# Altium integrated library Texas Instruments Interface RS-485.IntLib: 137 symbols (part 2 of 5)
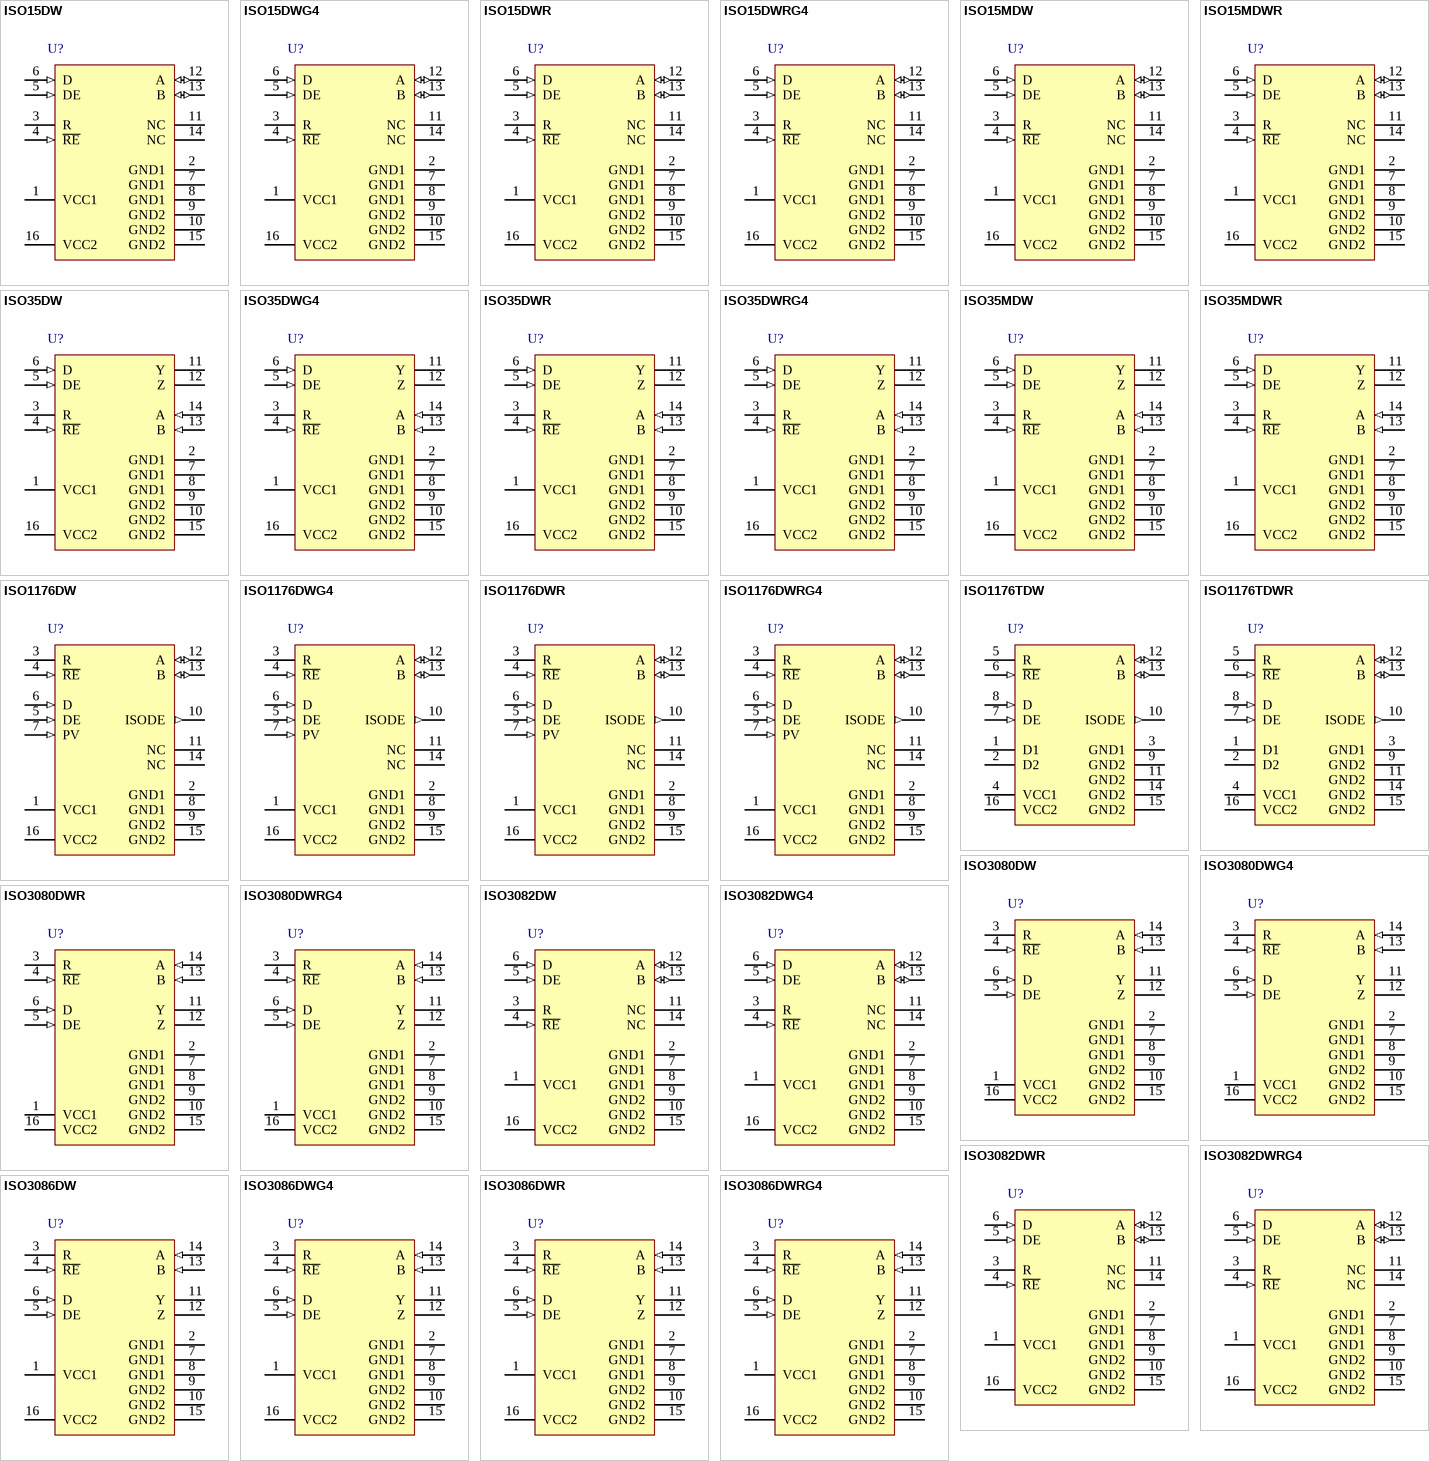
[diagram p4: symbols ISO15DW to ISO3086DWRG4]

## ISO3086DWG4
designator U?
Isolated RS-485 Transceiver, 20 Mbps, 5 V, Full Duplex, -40 to 85 degC, 16-pin SOIC (DW), Green (RoHS & no Sb/Br); Manufacturer: Texas Instruments; PartNumber: ISO3086DWG4; # of TX/RX: 1 TX / 1 RX; Drivers Per Package: 1; Isolated: Yes; Number of Nodes: 256; Signaling Rate(Mbps): 20; Common Mode Range: -7 to 12; ESD(kV): 16; Fault Protection(V): -9 to 14; Fail Safe: Idle, Open, Short; ICC(Max)(mA): 15; Supply Voltage(s)(V): 5; Rating: Catalog; DatasheetVersion: SLOS581E; PackageVersion: revG, Jan-2011; PackageReference: DW16; PackageDescription: 16-Pin Small Outline Integrated Circuit, 10.3 x 7.5 mm, Pitch 1.27 mm Pitch; Supplier 1: Digi-Key; Supplier Part Number 1: ISO3086DWG4-ND; Supplier 2: Newark; Supplier Part Number 2: 03P4530; Supplier 3: Mouser; Supplier Part Number 3: 595-ISO3086DWG4; Eco-Plan: Green (RoHS & no Sb/Br); SubFamily: RS-485; Receivers Per Package: 1; Duplex: Full; Mounting Technology: Surface Mount; Code_JEDEC: MS-013-AA; ComponentLink1Description: Datasheet; ComponentLink1URL: http://www.ti.com/general/docs/lit/getliterature.tsp?genericPartNumber=ISO3086&fileType=pdf; ComponentLink2Description: Package Specification; ComponentLink2URL: http://www.ti.com/litv/pdf/msoi003g
footprint DW16_N (SOIC, 16-Leads, Body 10.3x7.5mm, Pitch 1.27mm, IPC Medium Density)
footprint DW16_L (SOIC, 16-Leads, Body 10.3x7.5mm, Pitch 1.27mm, IPC High Density)
footprint DW16_M (SOIC, 16-Leads, Body 10.3x7.5mm, Pitch 1.27mm, IPC Low Density)
pins: 1 VCC1 (power), 2 GND1 (power), 3 R (hiz), 4 ~{RE} (in), 5 DE (in), 6 D (in), 7 GND1 (power), 8 GND1 (power), 9 GND2 (power), 10 GND2 (power), 11 Y (hiz), 12 Z (hiz), 13 B (in), 14 A (in), 15 GND2 (power), 16 VCC2 (power)

## ISO3086DWR
designator U?
Isolated RS-485 Transceiver, 20 Mbps, 5 V, Full Duplex, -40 to 85 degC, 16-pin SOIC (DW), Green (RoHS & no Sb/Br); Manufacturer: Texas Instruments; PartNumber: ISO3086DWR; # of TX/RX: 1 TX / 1 RX; Drivers Per Package: 1; Isolated: Yes; Number of Nodes: 256; Signaling Rate(Mbps): 20; Common Mode Range: -7 to 12; ESD(kV): 16; Fault Protection(V): -9 to 14; Fail Safe: Idle, Open, Short; ICC(Max)(mA): 15; Supply Voltage(s)(V): 5; Rating: Catalog; DatasheetVersion: SLOS581E; PackageVersion: revG, Jan-2011; PackageReference: DW16; PackageDescription: 16-Pin Small Outline Integrated Circuit, 10.3 x 7.5 mm, Pitch 1.27 mm Pitch; Supplier 1: Digi-Key; Supplier Part Number 1: ISO3086DWR-ND; Supplier 2: Newark; Supplier Part Number 2: 03P4531; Supplier 3: Mouser; Supplier Part Number 3: 595-ISO3086DWR; Eco-Plan: Green (RoHS & no Sb/Br); SubFamily: RS-485; Receivers Per Package: 1; Duplex: Full; Mounting Technology: Surface Mount; Code_JEDEC: MS-013-AA; ComponentLink1Description: Datasheet; ComponentLink1URL: http://www.ti.com/general/docs/lit/getliterature.tsp?genericPartNumber=ISO3086&fileType=pdf; ComponentLink2Description: Package Specification; ComponentLink2URL: http://www.ti.com/litv/pdf/msoi003g
footprint DW16_N (SOIC, 16-Leads, Body 10.3x7.5mm, Pitch 1.27mm, IPC Medium Density)
footprint DW16_L (SOIC, 16-Leads, Body 10.3x7.5mm, Pitch 1.27mm, IPC High Density)
footprint DW16_M (SOIC, 16-Leads, Body 10.3x7.5mm, Pitch 1.27mm, IPC Low Density)
pins: 1 VCC1 (power), 2 GND1 (power), 3 R (hiz), 4 ~{RE} (in), 5 DE (in), 6 D (in), 7 GND1 (power), 8 GND1 (power), 9 GND2 (power), 10 GND2 (power), 11 Y (hiz), 12 Z (hiz), 13 B (in), 14 A (in), 15 GND2 (power), 16 VCC2 (power)

## ISO3086DWRG4
designator U?
Isolated RS-485 Transceiver, 20 Mbps, 5 V, Full Duplex, -40 to 85 degC, 16-pin SOIC (DW), Green (RoHS & no Sb/Br); Manufacturer: Texas Instruments; PartNumber: ISO3086DWRG4; # of TX/RX: 1 TX / 1 RX; Drivers Per Package: 1; Isolated: Yes; Number of Nodes: 256; Signaling Rate(Mbps): 20; Common Mode Range: -7 to 12; ESD(kV): 16; Fault Protection(V): -9 to 14; Fail Safe: Idle, Open, Short; ICC(Max)(mA): 15; Supply Voltage(s)(V): 5; Rating: Catalog; DatasheetVersion: SLOS581E; PackageVersion: revG, Jan-2011; PackageReference: DW16; PackageDescription: 16-Pin Small Outline Integrated Circuit, 10.3 x 7.5 mm, Pitch 1.27 mm Pitch; Supplier 1: Digi-Key; Supplier Part Number 1: ISO3086DWRG4-ND; Supplier 2: Mouser; Supplier Part Number 2: 595-ISO3086DWRG4; Eco-Plan: Green (RoHS & no Sb/Br); SubFamily: RS-485; Receivers Per Package: 1; Duplex: Full; Mounting Technology: Surface Mount; Code_JEDEC: MS-013-AA; ComponentLink1Description: Datasheet; ComponentLink1URL: http://www.ti.com/general/docs/lit/getliterature.tsp?genericPartNumber=ISO3086&fileType=pdf; ComponentLink2Description: Package Specification; ComponentLink2URL: http://www.ti.com/litv/pdf/msoi003g
footprint DW16_N (SOIC, 16-Leads, Body 10.3x7.5mm, Pitch 1.27mm, IPC Medium Density)
footprint DW16_L (SOIC, 16-Leads, Body 10.3x7.5mm, Pitch 1.27mm, IPC High Density)
footprint DW16_M (SOIC, 16-Leads, Body 10.3x7.5mm, Pitch 1.27mm, IPC Low Density)
pins: 1 VCC1 (power), 2 GND1 (power), 3 R (hiz), 4 ~{RE} (in), 5 DE (in), 6 D (in), 7 GND1 (power), 8 GND1 (power), 9 GND2 (power), 10 GND2 (power), 11 Y (hiz), 12 Z (hiz), 13 B (in), 14 A (in), 15 GND2 (power), 16 VCC2 (power)

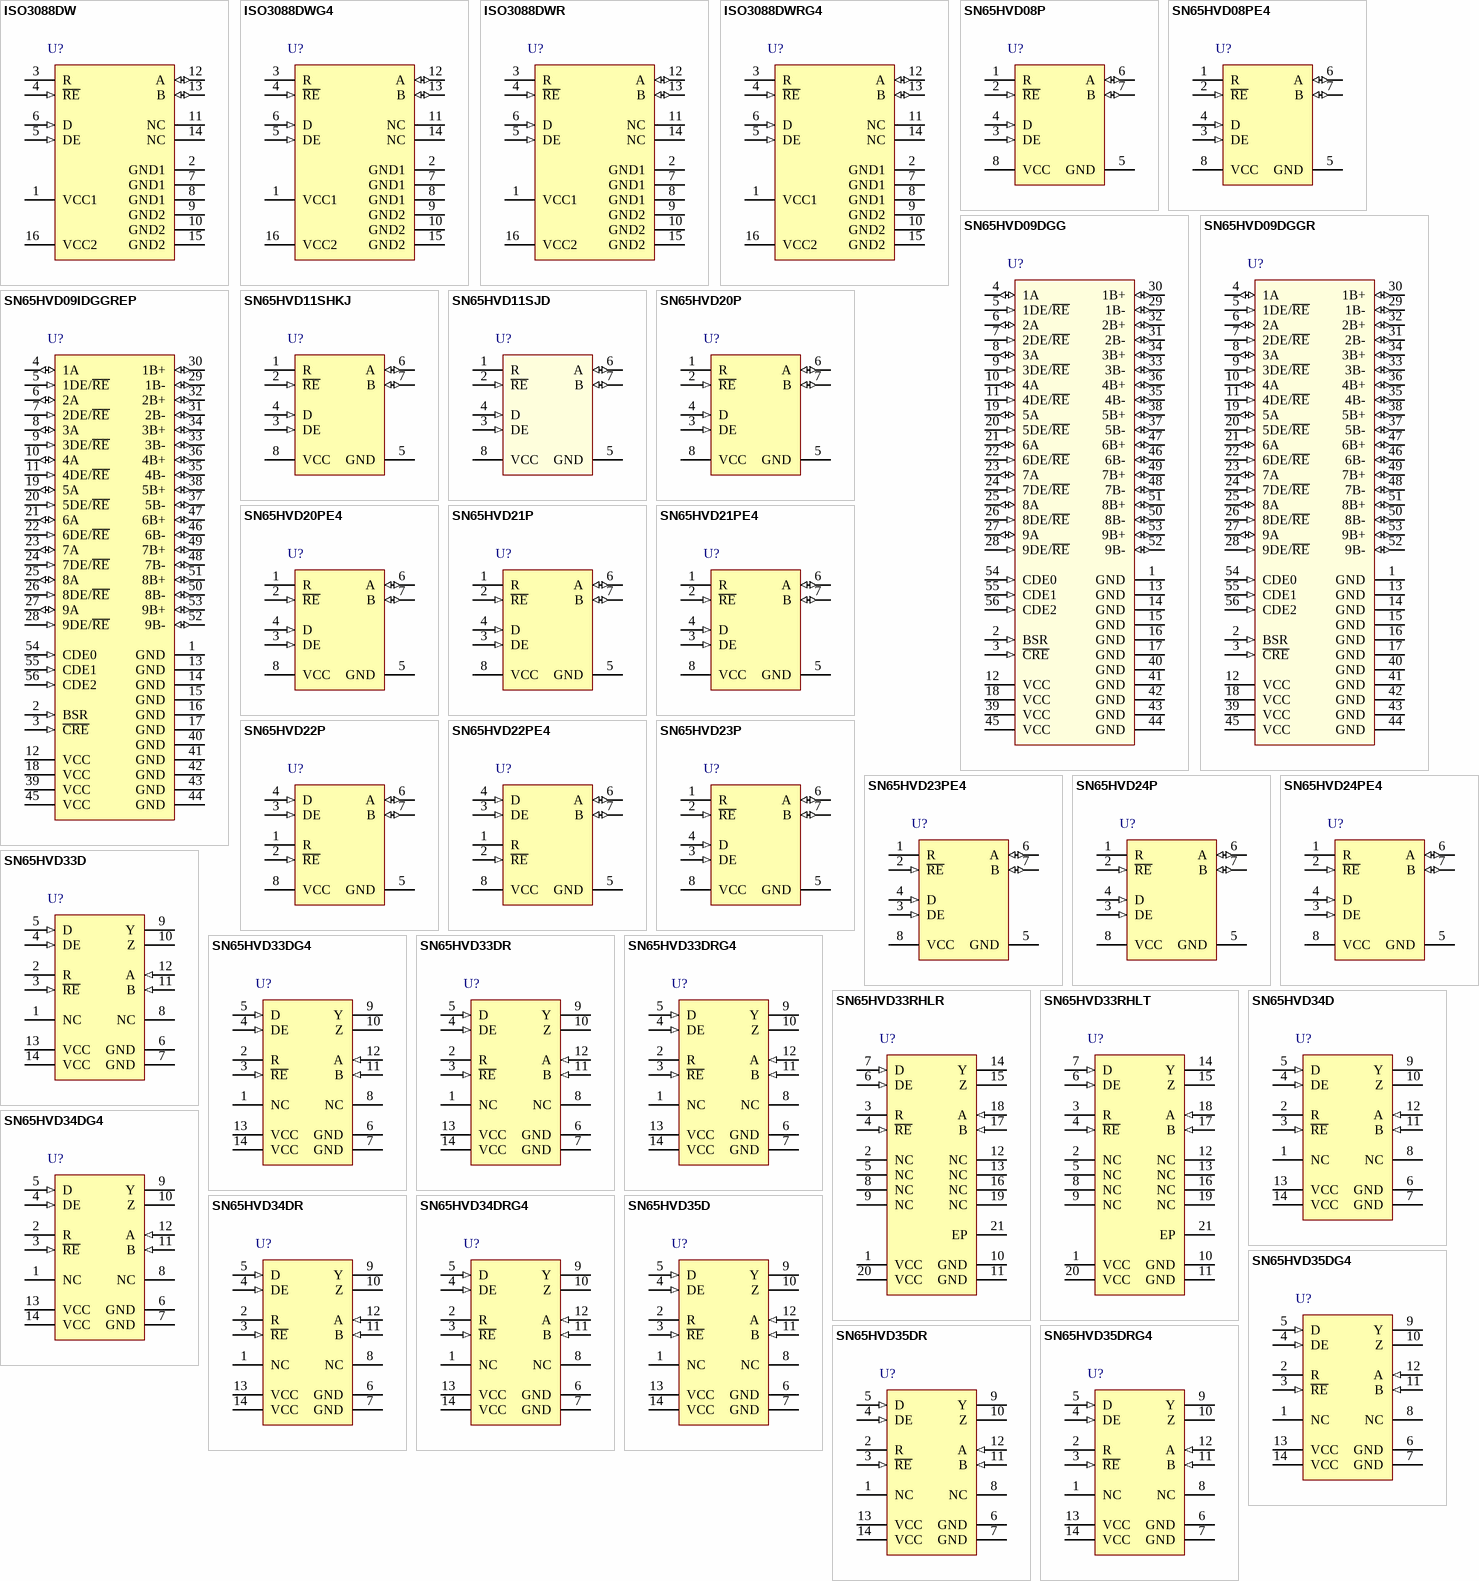
[diagram p1: symbols ISO3088DW to SN65HVD35DRG4]

## ISO3088DW
designator U?
Isolated RS-485 Transceiver, 20 Mbps, 5 V, Half Duplex, -40 to 85 degC, 16-pin SOIC (DW); Manufacturer: Texas Instruments; PartNumber: ISO3088DW; Eco-Plan: TBD; # of TX/RX: 1 TX / 1 RX; Drivers Per Package: 1; Isolated: Yes; Number of Nodes: 256; Signaling Rate(Mbps): 20; Common Mode Range: -7 to 12; ESD(kV): 16; Fault Protection(V): -9 to 14; Fail Safe: Idle, Open, Short; ICC(Max)(mA): 15; Supply Voltage(s)(V): 5; Rating: Catalog; DatasheetVersion: SLOS581E; PackageVersion: revG, Jan-2011; PackageReference: DW16; PackageDescription: 16-Pin Small Outline Integrated Circuit, 10.3 x 7.5 mm, Pitch 1.27 mm Pitch; Supplier 1: Digi-Key; Supplier Part Number 1: 296-23490-5-ND; Supplier 2: Farnell; Supplier Part Number 2: 1755042; Supplier 3: Newark; Supplier Part Number 3: 13N4116; Supplier 4: Mouser; Supplier Part Number 4: 595-ISO3088DW; SubFamily: RS-485; Receivers Per Package: 1; Duplex: Half; Mounting Technology: Surface Mount; Code_JEDEC: MS-013-AA; ComponentLink1Description: Datasheet; ComponentLink1URL: http://www.ti.com/general/docs/lit/getliterature.tsp?genericPartNumber=ISO3088&fileType=pdf; ComponentLink2Description: Package Specification; ComponentLink2URL: http://www.ti.com/litv/pdf/msoi003g
footprint DW16_N (SOIC, 16-Leads, Body 10.3x7.5mm, Pitch 1.27mm, IPC Medium Density)
footprint DW16_L (SOIC, 16-Leads, Body 10.3x7.5mm, Pitch 1.27mm, IPC High Density)
footprint DW16_M (SOIC, 16-Leads, Body 10.3x7.5mm, Pitch 1.27mm, IPC Low Density)
pins: 1 VCC1 (power), 2 GND1 (power), 3 R (hiz), 4 ~{RE} (in), 5 DE (in), 6 D (in), 7 GND1 (power), 8 GND1 (power), 9 GND2 (power), 10 GND2 (power), 11 NC, 12 A (io), 13 B (io), 14 NC, 15 GND2 (power), 16 VCC2 (power)

## ISO3088DWG4
designator U?
Isolated RS-485 Transceiver, 20 Mbps, 5 V, Half Duplex, -40 to 85 degC, 16-pin SOIC (DW); Manufacturer: Texas Instruments; PartNumber: ISO3088DWG4; Eco-Plan: TBD; # of TX/RX: 1 TX / 1 RX; Drivers Per Package: 1; Isolated: Yes; Number of Nodes: 256; Signaling Rate(Mbps): 20; Common Mode Range: -7 to 12; ESD(kV): 16; Fault Protection(V): -9 to 14; Fail Safe: Idle, Open, Short; ICC(Max)(mA): 15; Supply Voltage(s)(V): 5; Rating: Catalog; DatasheetVersion: SLOS581E; PackageVersion: revG, Jan-2011; PackageReference: DW16; PackageDescription: 16-Pin Small Outline Integrated Circuit, 10.3 x 7.5 mm, Pitch 1.27 mm Pitch; Supplier 1: Digi-Key; Supplier Part Number 1: ISO3088DWG4-ND; Supplier 2: Newark; Supplier Part Number 2: 03P4533; Supplier 3: Mouser; Supplier Part Number 3: 595-ISO3088DWG4; SubFamily: RS-485; Receivers Per Package: 1; Duplex: Half; Mounting Technology: Surface Mount; Code_JEDEC: MS-013-AA; ComponentLink1Description: Datasheet; ComponentLink1URL: http://www.ti.com/general/docs/lit/getliterature.tsp?genericPartNumber=ISO3088&fileType=pdf; ComponentLink2Description: Package Specification; ComponentLink2URL: http://www.ti.com/litv/pdf/msoi003g
footprint DW16_N (SOIC, 16-Leads, Body 10.3x7.5mm, Pitch 1.27mm, IPC Medium Density)
footprint DW16_L (SOIC, 16-Leads, Body 10.3x7.5mm, Pitch 1.27mm, IPC High Density)
footprint DW16_M (SOIC, 16-Leads, Body 10.3x7.5mm, Pitch 1.27mm, IPC Low Density)
pins: 1 VCC1 (power), 2 GND1 (power), 3 R (hiz), 4 ~{RE} (in), 5 DE (in), 6 D (in), 7 GND1 (power), 8 GND1 (power), 9 GND2 (power), 10 GND2 (power), 11 NC, 12 A (io), 13 B (io), 14 NC, 15 GND2 (power), 16 VCC2 (power)

## ISO3088DWR
designator U?
Isolated RS-485 Transceiver, 20 Mbps, 5 V, Half Duplex, -40 to 85 degC, 16-pin SOIC (DW); Manufacturer: Texas Instruments; PartNumber: ISO3088DWR; Eco-Plan: TBD; # of TX/RX: 1 TX / 1 RX; Drivers Per Package: 1; Isolated: Yes; Number of Nodes: 256; Signaling Rate(Mbps): 20; Common Mode Range: -7 to 12; ESD(kV): 16; Fault Protection(V): -9 to 14; Fail Safe: Idle, Open, Short; ICC(Max)(mA): 15; Supply Voltage(s)(V): 5; Rating: Catalog; DatasheetVersion: SLOS581E; PackageVersion: revG, Jan-2011; PackageReference: DW16; PackageDescription: 16-Pin Small Outline Integrated Circuit, 10.3 x 7.5 mm, Pitch 1.27 mm Pitch; Supplier 1: Digi-Key; Supplier Part Number 1: ISO3088DWR-ND; Supplier 2: Newark; Supplier Part Number 2: 03P4534; Supplier 3: Mouser; Supplier Part Number 3: 595-ISO3088DWR; SubFamily: RS-485; Receivers Per Package: 1; Duplex: Half; Mounting Technology: Surface Mount; Code_JEDEC: MS-013-AA; ComponentLink1Description: Datasheet; ComponentLink1URL: http://www.ti.com/general/docs/lit/getliterature.tsp?genericPartNumber=ISO3088&fileType=pdf; ComponentLink2Description: Package Specification; ComponentLink2URL: http://www.ti.com/litv/pdf/msoi003g
footprint DW16_N (SOIC, 16-Leads, Body 10.3x7.5mm, Pitch 1.27mm, IPC Medium Density)
footprint DW16_L (SOIC, 16-Leads, Body 10.3x7.5mm, Pitch 1.27mm, IPC High Density)
footprint DW16_M (SOIC, 16-Leads, Body 10.3x7.5mm, Pitch 1.27mm, IPC Low Density)
pins: 1 VCC1 (power), 2 GND1 (power), 3 R (hiz), 4 ~{RE} (in), 5 DE (in), 6 D (in), 7 GND1 (power), 8 GND1 (power), 9 GND2 (power), 10 GND2 (power), 11 NC, 12 A (io), 13 B (io), 14 NC, 15 GND2 (power), 16 VCC2 (power)

## ISO3088DWRG4
designator U?
Isolated RS-485 Transceiver, 20 Mbps, 5 V, Half Duplex, -40 to 85 degC, 16-pin SOIC (DW); Manufacturer: Texas Instruments; PartNumber: ISO3088DWRG4; Eco-Plan: TBD; # of TX/RX: 1 TX / 1 RX; Drivers Per Package: 1; Isolated: Yes; Number of Nodes: 256; Signaling Rate(Mbps): 20; Common Mode Range: -7 to 12; ESD(kV): 16; Fault Protection(V): -9 to 14; Fail Safe: Idle, Open, Short; ICC(Max)(mA): 15; Supply Voltage(s)(V): 5; Rating: Catalog; DatasheetVersion: SLOS581E; PackageVersion: revG, Jan-2011; PackageReference: DW16; PackageDescription: 16-Pin Small Outline Integrated Circuit, 10.3 x 7.5 mm, Pitch 1.27 mm Pitch; Supplier 1: Digi-Key; Supplier Part Number 1: ISO3088DWRG4-ND; Supplier 2: Mouser; Supplier Part Number 2: 595-ISO3088DWRG4; SubFamily: RS-485; Receivers Per Package: 1; Duplex: Half; Mounting Technology: Surface Mount; Code_JEDEC: MS-013-AA; ComponentLink1Description: Datasheet; ComponentLink1URL: http://www.ti.com/general/docs/lit/getliterature.tsp?genericPartNumber=ISO3088&fileType=pdf; ComponentLink2Description: Package Specification; ComponentLink2URL: http://www.ti.com/litv/pdf/msoi003g
footprint DW16_N (SOIC, 16-Leads, Body 10.3x7.5mm, Pitch 1.27mm, IPC Medium Density)
footprint DW16_L (SOIC, 16-Leads, Body 10.3x7.5mm, Pitch 1.27mm, IPC High Density)
footprint DW16_M (SOIC, 16-Leads, Body 10.3x7.5mm, Pitch 1.27mm, IPC Low Density)
pins: 1 VCC1 (power), 2 GND1 (power), 3 R (hiz), 4 ~{RE} (in), 5 DE (in), 6 D (in), 7 GND1 (power), 8 GND1 (power), 9 GND2 (power), 10 GND2 (power), 11 NC, 12 A (io), 13 B (io), 14 NC, 15 GND2 (power), 16 VCC2 (power)

## SN65HVD08P
designator U?
3.3 / 5 V RS-485 Transceiver, 10 Mbps, Half Duplex, -40 to 85 degC, 8-pin PDIP (P), Pb-Free (RoHS); Manufacturer: Texas Instruments; PartNumber: SN65HVD08P; Eco-Plan: Green (RoHS & no Sb/Br); # of TX/RX: 1 TX / 1 RX; Drivers Per Package: 1; Isolated: No; Number of Nodes: 256; Signaling Rate(Mbps): 10; Common Mode Range: -7 to 12; ESD(kV): 16; Fault Protection(V): -9 to 14; Fail Safe: Idle, Open, Short; Supply Voltage(s)(V): 3.3, 5; Rating: Catalog; DatasheetVersion: SLLS550C; PackageVersion: revE, Apr-2010; PackageReference: P8; PackageDescription: 8-Pin Plastic Dual-In-Line Package, Row Spacing 7.62 mm, Pitch 2.54 mm; Supplier 1: Digi-Key; Supplier Part Number 1: 296-14011-5-ND; Supplier 2: Farnell; Supplier Part Number 2: 8452083; Supplier 3: Farnell; Supplier Part Number 3: 2118813; Supplier 4: Newark; Supplier Part Number 4: 22H0093; Supplier 5: Mouser; Supplier Part Number 5: 595-SN65HVD08P; SubFamily: RS-485; Receivers Per Package: 1; Duplex: Half; ICC(Max)(mA): 16; Footprint: SN75176; Mounting Technology: Through-hole; Code_JEDEC: MS-001-BA; ComponentLink1Description: Datasheet; ComponentLink1URL: http://www.ti.com/general/docs/lit/getliterature.tsp?genericPartNumber=SN65HVD08&fileType=pdf; ComponentLink2Description: Package Specification; ComponentLink2URL: http://www.ti.com/litv/pdf/mpdi001b
footprint P8 (DIP, 8-Leads, Row Spacing 7.62mm, Pitch 2.54mm, Body 9.6x6.4mm)
pins: 1 R (hiz), 2 ~{RE} (in), 3 DE (in), 4 D (in), 5 GND (power), 6 A (io), 7 B (io), 8 VCC (power)

## SN65HVD08PE4
designator U?
3.3 / 5 V RS-485 Transceiver, 10 Mbps, Half Duplex, -40 to 85 degC, 8-pin PDIP (P), Pb-Free (RoHS); Manufacturer: Texas Instruments; PartNumber: SN65HVD08PE4; Eco-Plan: Green (RoHS & no Sb/Br); # of TX/RX: 1 TX / 1 RX; Drivers Per Package: 1; Isolated: No; Number of Nodes: 256; Signaling Rate(Mbps): 10; Common Mode Range: -7 to 12; ESD(kV): 16; Fault Protection(V): -9 to 14; Fail Safe: Idle, Open, Short; Supply Voltage(s)(V): 3.3, 5; Rating: Catalog; DatasheetVersion: SLLS550C; PackageVersion: revE, Apr-2010; PackageReference: P8; PackageDescription: 8-Pin Plastic Dual-In-Line Package, Row Spacing 7.62 mm, Pitch 2.54 mm; Supplier 1: Digi-Key; Supplier Part Number 1: SN65HVD08PE4-ND; Supplier 2: Mouser; Supplier Part Number 2: 595-SN65HVD08PE4; SubFamily: RS-485; Receivers Per Package: 1; Duplex: Half; ICC(Max)(mA): 16; Footprint: SN75176; Mounting Technology: Through-hole; Code_JEDEC: MS-001-BA; ComponentLink1Description: Datasheet; ComponentLink1URL: http://www.ti.com/general/docs/lit/getliterature.tsp?genericPartNumber=SN65HVD08&fileType=pdf; ComponentLink2Description: Package Specification; ComponentLink2URL: http://www.ti.com/litv/pdf/mpdi001b
footprint P8 (DIP, 8-Leads, Row Spacing 7.62mm, Pitch 2.54mm, Body 9.6x6.4mm)
pins: 1 R (hiz), 2 ~{RE} (in), 3 DE (in), 4 D (in), 5 GND (power), 6 A (io), 7 B (io), 8 VCC (power)

## SN65HVD09DGG
designator U?
9 Channel - RS-485 / RS-422 Transceiver, 20 Mbps, 5 V, Half Duplex, -40 to 85 degC, 56-pin TSSOP (DGG), Green (RoHS & no Sb/Br); Manufacturer: Texas Instruments; PartNumber: SN65HVD09DGG; # of TX/RX: 9 TX / 9 RX; Drivers Per Package: 9; Number of Nodes: 32; Signaling Rate(Mbps): 20; Common Mode Range: -7 to 12; ESD(kV): 12; Fault Protection(V): -9 to 14; ICC(Max)(mA): 60; Supply Voltage(s)(V): 5; Rating: Catalog; DatasheetVersion: SLLS941; PackageVersion: revF, Dec-1997; PackageReference: DGG56; PackageDescription: 56-Pin Plastic Small Outline 0.5 mm Pitch; Supplier 1: Digi-Key; Supplier Part Number 1: SN65HVD09DGG-ND; Supplier 2: Newark; Supplier Part Number 2: 45P8161; Supplier 3: Mouser; Supplier Part Number 3: 595-SN65HVD09DGG; Eco-Plan: Green (RoHS & no Sb/Br); SubFamily: RS-485; Receivers Per Package: 9; Isolated: No; Duplex: Half; Mounting Technology: Surface Mount; Code_JEDEC: MO-153; ComponentLink1Description: Datasheet; ComponentLink1URL: http://www.ti.com/general/docs/lit/getliterature.tsp?genericPartNumber=SN65HVD09&fileType=pdf; ComponentLink2Description: Package Specification; ComponentLink2URL: http://www.ti.com/litv/pdf/mtss003d
footprint DGG56_N (TSSOP, 56-Leads, Body 14x6.1mm, Pitch 0.5mm, IPC Medium Density)
footprint DGG56_L (TSSOP, 56-Leads, Body 14x6.1mm, Pitch 0.5mm, IPC High Density)
footprint DGG56_M (TSSOP, 56-Leads, Body 14x6.1mm, Pitch 0.5mm, IPC Low Density)
pins: 1 GND (power) "GND is the circuit ground. All GND terminals except terminal 1 are physically tied to the die pad for improved thermal conductivity.", 2 BSR (in) "BSR is the bit significant response. BSR disables receivers 1 through 8 and enables wired-OR drivers when BSR and DE/R\E\ and CDE1 or CDE2 are high. Channel 9 is placed in a high-impedance state with BSR high.", 3 ~{CRE} (in) "C\R\E\ is the common receiver enable. When high, CRE disables receiver channels 5 to 9.", 4 1A (io) "1A carry data to and from the communication controller.", 5 1DE/~{RE} (in) "1DE/R\E\ are direction controls that transmit data to the bus when it and CDE0 are high .Data is received from  the bus when 1DE/R\E\ and CRE and BSR are low and CDE1 and CDE2 are low.", 6 2A (io) "2A carry data to and from the communication controller.", 7 2DE/~{RE} (in) "2DE/R\E\ are direction controls that transmit data to the bus when it and CDE0 are high .Data is received from  the bus when 2DE/R\E\ and CRE and BSR are low and CDE1 and CDE2 are low.", 8 3A (io) "3A carry data to and from the communication controller.", 9 3DE/~{RE} (in) "3DE/R\E\ are direction controls that transmit data to the bus when it and CDE0 are high .Data is received from  the bus when 3DE/R\E\ and CRE and BSR are low and CDE1 and CDE2 are low.", 10 4A (io) "4A carry data to and from the communication controller.", 11 4DE/~{RE} (in) "4DE/R\E\ are direction controls that transmit data to the bus when it and CDE0 are high .Data is received from  the bus when 4DE/R\E\ and CRE and BSR are low and CDE1 and CDE2 are low.", 12 VCC (power) "Supply voltage", 13 GND (power) "GND is the circuit ground. All GND terminals except terminal 1 are physically tied to the die pad for improved thermal conductivity.", 14 GND (power) "GND is the circuit ground. All GND terminals except terminal 1 are physically tied to the die pad for improved thermal conductivity.", 15 GND (power) "GND is the circuit ground. All GND terminals except terminal 1 are physically tied to the die pad for improved thermal conductivity.", 16 GND (power) "GND is the circuit ground. All GND terminals except terminal 1 are physically tied to the die pad for improved thermal conductivity.", 17 GND (power) "GND is the circuit ground. All GND terminals except terminal 1 are physically tied to the die pad for improved thermal conductivity.", 18 VCC (power) "Supply voltage", 19 5A (io) "5A carry data to and from the communication controller.", 20 5DE/~{RE} (in) "5DE/R\E\ are direction controls that transmit data to the bus when it and CDE0 are high .Data is received from  the bus when 5DE/R\E\ and CRE and BSR are low and CDE1 and CDE2 are low.", 21 6A (io) "6A carry data to and from the communication controller.", 22 6DE/~{RE} (in) "6DE/R\E\ are direction controls that transmit data to the bus when it and CDE0 are high .Data is received from  the bus when 6DE/R\E\ and CRE and BSR are low and CDE1 and CDE2 are low.", 23 7A (io) "7A carry data to and from the communication controller.", 24 7DE/~{RE} (in) "7DE/R\E\ are direction controls that transmit data to the bus when it and CDE0 are high .Data is received from  the bus when 7DE/R\E\ and CRE and BSR are low and CDE1 and CDE2 are low.", 25 8A (io) "8A carry data to and from the communication controller.", 26 8DE/~{RE} (in) "8DE/R\E\ are direction controls that transmit data to the bus when it and CDE0 are high .Data is received from  the bus when 8DE/R\E\ and CRE and BSR are low and CDE1 and CDE2 are low.", 27 9A (io) "9A carry data to and from the communication controller.", 28 9DE/~{RE} (in) "9DE/R\E\ are direction controls that transmit data to the bus when it and CDE0 are high .Data is received from  the bus when 9DE/R\E\ and CRE and BSR are low and CDE1 and CDE2 are low.", 29 1B- (io) "1B- are the inverted data signals of the balanced pair to/from the bus.", 30 1B+ (io) "1B+ are the noninverted data signals of the balanced pair to/from the bus.", 31 2B- (io) "2B- are the inverted data signals of the balanced pair to/from the bus.", 32 2B+ (io) "2B+ are the noninverted data signals of the balanced pair to/from the bus.", 33 3B- (io) "3B- are the inverted data signals of the balanced pair to/from the bus.", 34 3B+ (io) "3B+ are the noninverted data signals of the balanced pair to/from the bus.", 35 4B- (io) "4B- are the inverted data signals of the balanced pair to/from the bus.", 36 4B+ (io) "4B+ are the noninverted data signals of the balanced pair to/from the bus.", 37 5B- (io) "5B- are the inverted data signals of the balanced pair to/from the bus.", 38 5B+ (io) "5B+ are the noninverted data signals of the balanced pair to/from the bus.", 39 VCC (power) "Supply voltage", 40 GND (power) "GND is the circuit ground. All GND terminals except terminal 1 are physically tied to the die pad for improved thermal conductivity.", 41 GND (power) "GND is the circuit ground. All GND terminals except terminal 1 are physically tied to the die pad for improved thermal conductivity.", 42 GND (power) "GND is the circuit ground. All GND terminals except terminal 1 are physically tied to the die pad for improved thermal conductivity.", 43 GND (power) "GND is the circuit ground. All GND terminals except terminal 1 are physically tied to the die pad for improved thermal conductivity.", 44 GND (power) "GND is the circuit ground. All GND terminals except terminal 1 are physically tied to the die pad for improved thermal conductivity.", 45 VCC (power) "Supply voltage", 46 6B- (io) "6B- are the inverted data signals of the balanced pair to/from the bus.", 47 6B+ (io) "6B+ are the noninverted data signals of the balanced pair to/from the bus.", 48 7B- (io) "7B- are the inverted data signals of the balanced pair to/from the bus.", 49 7B+ (io) "7B+ are the noninverted data signals of the balanced pair to/from the bus.", 50 8B- (io) "8B- are the inverted data signals of the balanced pair to/from the bus.", 51 8B+ (io) "8B+ are the noninverted data signals of the balanced pair to/from the bus.", 52 9B- (io) "9B- are the inverted data signals of the balanced pair to/from the bus.", 53 9B+ (io) "9B+ are the noninverted data signals of the balanced pair to/from the bus.", 54 CDE0 (in) "CDE0 is the common driver enable 0. Its input signal enables all drivers when CDE0 and 1DE/R\E\-9DE/R\E\ are high.", 55 CDE1 (in) "CDE1 is the common driver enable 1. Its input signal enables drivers 1 to 4 when CDE1 is high and BSR is low.", 56 CDE2 (in) "CDE2 is the common driver enable 2.When CDE2 is high and BSR is low, drivers 5 to 8 are enabled"

## SN65HVD09DGGR
designator U?
9 Channel - RS-485 / RS-422 Transceiver, 20 Mbps, 5 V, Half Duplex, -40 to 85 degC, 56-pin TSSOP (DGG), Green (RoHS & no Sb/Br); Manufacturer: Texas Instruments; PartNumber: SN65HVD09DGGR; # of TX/RX: 9 TX / 9 RX; Drivers Per Package: 9; Number of Nodes: 32; Signaling Rate(Mbps): 20; Common Mode Range: -7 to 12; ESD(kV): 12; Fault Protection(V): -9 to 14; ICC(Max)(mA): 60; Supply Voltage(s)(V): 5; Rating: Catalog; DatasheetVersion: SLLS941; PackageVersion: revF, Dec-1997; PackageReference: DGG56; PackageDescription: 56-Pin Plastic Small Outline 0.5 mm Pitch; Supplier 1: Digi-Key; Supplier Part Number 1: 296-24051-2-ND; Supplier 2: Digi-Key; Supplier Part Number 2: 296-24051-1-ND; Supplier 3: Digi-Key; Supplier Part Number 3: 296-24051-6-ND; Supplier 4: Newark; Supplier Part Number 4: 45P8162; Supplier 5: Mouser; Supplier Part Number 5: 595-SN65HVD09DGGR; Eco-Plan: Green (RoHS & no Sb/Br); SubFamily: RS-485; Receivers Per Package: 9; Isolated: No; Duplex: Half; Mounting Technology: Surface Mount; Code_JEDEC: MO-153; ComponentLink1Description: Datasheet; ComponentLink1URL: http://www.ti.com/general/docs/lit/getliterature.tsp?genericPartNumber=SN65HVD09&fileType=pdf; ComponentLink2Description: Package Specification; ComponentLink2URL: http://www.ti.com/litv/pdf/mtss003d
footprint DGG56_N (TSSOP, 56-Leads, Body 14x6.1mm, Pitch 0.5mm, IPC Medium Density)
footprint DGG56_L (TSSOP, 56-Leads, Body 14x6.1mm, Pitch 0.5mm, IPC High Density)
footprint DGG56_M (TSSOP, 56-Leads, Body 14x6.1mm, Pitch 0.5mm, IPC Low Density)
pins: 1 GND (power) "GND is the circuit ground. All GND terminals except terminal 1 are physically tied to the die pad for improved thermal conductivity.", 2 BSR (in) "BSR is the bit significant response. BSR disables receivers 1 through 8 and enables wired-OR drivers when BSR and DE/R\E\ and CDE1 or CDE2 are high. Channel 9 is placed in a high-impedance state with BSR high.", 3 ~{CRE} (in) "C\R\E\ is the common receiver enable. When high, CRE disables receiver channels 5 to 9.", 4 1A (io) "1A carry data to and from the communication controller.", 5 1DE/~{RE} (in) "1DE/R\E\ are direction controls that transmit data to the bus when it and CDE0 are high .Data is received from  the bus when 1DE/R\E\ and CRE and BSR are low and CDE1 and CDE2 are low.", 6 2A (io) "2A carry data to and from the communication controller.", 7 2DE/~{RE} (in) "2DE/R\E\ are direction controls that transmit data to the bus when it and CDE0 are high .Data is received from  the bus when 2DE/R\E\ and CRE and BSR are low and CDE1 and CDE2 are low.", 8 3A (io) "3A carry data to and from the communication controller.", 9 3DE/~{RE} (in) "3DE/R\E\ are direction controls that transmit data to the bus when it and CDE0 are high .Data is received from  the bus when 3DE/R\E\ and CRE and BSR are low and CDE1 and CDE2 are low.", 10 4A (io) "4A carry data to and from the communication controller.", 11 4DE/~{RE} (in) "4DE/R\E\ are direction controls that transmit data to the bus when it and CDE0 are high .Data is received from  the bus when 4DE/R\E\ and CRE and BSR are low and CDE1 and CDE2 are low.", 12 VCC (power) "Supply voltage", 13 GND (power) "GND is the circuit ground. All GND terminals except terminal 1 are physically tied to the die pad for improved thermal conductivity.", 14 GND (power) "GND is the circuit ground. All GND terminals except terminal 1 are physically tied to the die pad for improved thermal conductivity.", 15 GND (power) "GND is the circuit ground. All GND terminals except terminal 1 are physically tied to the die pad for improved thermal conductivity.", 16 GND (power) "GND is the circuit ground. All GND terminals except terminal 1 are physically tied to the die pad for improved thermal conductivity.", 17 GND (power) "GND is the circuit ground. All GND terminals except terminal 1 are physically tied to the die pad for improved thermal conductivity.", 18 VCC (power) "Supply voltage", 19 5A (io) "5A carry data to and from the communication controller.", 20 5DE/~{RE} (in) "5DE/R\E\ are direction controls that transmit data to the bus when it and CDE0 are high .Data is received from  the bus when 5DE/R\E\ and CRE and BSR are low and CDE1 and CDE2 are low.", 21 6A (io) "6A carry data to and from the communication controller.", 22 6DE/~{RE} (in) "6DE/R\E\ are direction controls that transmit data to the bus when it and CDE0 are high .Data is received from  the bus when 6DE/R\E\ and CRE and BSR are low and CDE1 and CDE2 are low.", 23 7A (io) "7A carry data to and from the communication controller.", 24 7DE/~{RE} (in) "7DE/R\E\ are direction controls that transmit data to the bus when it and CDE0 are high .Data is received from  the bus when 7DE/R\E\ and CRE and BSR are low and CDE1 and CDE2 are low.", 25 8A (io) "8A carry data to and from the communication controller.", 26 8DE/~{RE} (in) "8DE/R\E\ are direction controls that transmit data to the bus when it and CDE0 are high .Data is received from  the bus when 8DE/R\E\ and CRE and BSR are low and CDE1 and CDE2 are low.", 27 9A (io) "9A carry data to and from the communication controller.", 28 9DE/~{RE} (in) "9DE/R\E\ are direction controls that transmit data to the bus when it and CDE0 are high .Data is received from  the bus when 9DE/R\E\ and CRE and BSR are low and CDE1 and CDE2 are low.", 29 1B- (io) "1B- are the inverted data signals of the balanced pair to/from the bus.", 30 1B+ (io) "1B+ are the noninverted data signals of the balanced pair to/from the bus.", 31 2B- (io) "2B- are the inverted data signals of the balanced pair to/from the bus.", 32 2B+ (io) "2B+ are the noninverted data signals of the balanced pair to/from the bus.", 33 3B- (io) "3B- are the inverted data signals of the balanced pair to/from the bus.", 34 3B+ (io) "3B+ are the noninverted data signals of the balanced pair to/from the bus.", 35 4B- (io) "4B- are the inverted data signals of the balanced pair to/from the bus.", 36 4B+ (io) "4B+ are the noninverted data signals of the balanced pair to/from the bus.", 37 5B- (io) "5B- are the inverted data signals of the balanced pair to/from the bus.", 38 5B+ (io) "5B+ are the noninverted data signals of the balanced pair to/from the bus.", 39 VCC (power) "Supply voltage", 40 GND (power) "GND is the circuit ground. All GND terminals except terminal 1 are physically tied to the die pad for improved thermal conductivity.", 41 GND (power) "GND is the circuit ground. All GND terminals except terminal 1 are physically tied to the die pad for improved thermal conductivity.", 42 GND (power) "GND is the circuit ground. All GND terminals except terminal 1 are physically tied to the die pad for improved thermal conductivity.", 43 GND (power) "GND is the circuit ground. All GND terminals except terminal 1 are physically tied to the die pad for improved thermal conductivity.", 44 GND (power) "GND is the circuit ground. All GND terminals except terminal 1 are physically tied to the die pad for improved thermal conductivity.", 45 VCC (power) "Supply voltage", 46 6B- (io) "6B- are the inverted data signals of the balanced pair to/from the bus.", 47 6B+ (io) "6B+ are the noninverted data signals of the balanced pair to/from the bus.", 48 7B- (io) "7B- are the inverted data signals of the balanced pair to/from the bus.", 49 7B+ (io) "7B+ are the noninverted data signals of the balanced pair to/from the bus.", 50 8B- (io) "8B- are the inverted data signals of the balanced pair to/from the bus.", 51 8B+ (io) "8B+ are the noninverted data signals of the balanced pair to/from the bus.", 52 9B- (io) "9B- are the inverted data signals of the balanced pair to/from the bus.", 53 9B+ (io) "9B+ are the noninverted data signals of the balanced pair to/from the bus.", 54 CDE0 (in) "CDE0 is the common driver enable 0. Its input signal enables all drivers when CDE0 and 1DE/R\E\-9DE/R\E\ are high.", 55 CDE1 (in) "CDE1 is the common driver enable 1. Its input signal enables drivers 1 to 4 when CDE1 is high and BSR is low.", 56 CDE2 (in) "CDE2 is the common driver enable 2.When CDE2 is high and BSR is low, drivers 5 to 8 are enabled"

## SN65HVD09IDGGREP
designator U?
Enhanced Product 9 Channel - RS-485 / RS-422 Transceiver, 20 Mbps, 5 V, Half Duplex, -40 to 85 degC, 56-pin TSSOP (DGG), Green (RoHS & no Sb/Br); Manufacturer: Texas Instruments; PartNumber: SN65HVD09IDGGREP; # of TX/RX: 9 TX / 9 RX; Drivers Per Package: 9; Number of Nodes: 32; Signaling Rate(Mbps): 20; Common Mode Range: -7 to 12; ESD(kV): 12; Fault Protection(V): -9 to 14; ICC(Max)(mA): 60; Supply Voltage(s)(V): 5; Rating: HiRel Enhanced Product; DatasheetVersion: SLLSEA3; PackageVersion: revF, Dec-1997; PackageReference: DGG56; PackageDescription: 56-Pin Plastic Small Outline 0.5 mm Pitch; Supplier 1: Digi-Key; Supplier Part Number 1: 296-30134-2-ND; Supplier 2: Digi-Key; Supplier Part Number 2: 296-30134-1-ND; Supplier 3: Newark; Supplier Part Number 3: 76T7394; Supplier 4: Mouser; Supplier Part Number 4: 595-SN65HVD09IDGGREP; Eco-Plan: Green (RoHS & no Sb/Br); SubFamily: RS-485; Receivers Per Package: 9; Isolated: No; Duplex: Half; Mounting Technology: Surface Mount; Code_JEDEC: MO-153; ComponentLink1Description: Datasheet; ComponentLink1URL: http://www.ti.com/general/docs/lit/getliterature.tsp?genericPartNumber=SN65HVD09-EP&fileType=pdf; ComponentLink2Description: Package Specification; ComponentLink2URL: http://www.ti.com/litv/pdf/mtss003d
footprint DGG56_N (TSSOP, 56-Leads, Body 14x6.1mm, Pitch 0.5mm, IPC Medium Density)
footprint DGG56_L (TSSOP, 56-Leads, Body 14x6.1mm, Pitch 0.5mm, IPC High Density)
footprint DGG56_M (TSSOP, 56-Leads, Body 14x6.1mm, Pitch 0.5mm, IPC Low Density)
pins: 1 GND (power) "GND is the circuit ground. All GND terminals except terminal 1 are physically tied to the die pad for improved thermal conductivity.", 2 BSR (in) "BSR is the bit significant response. BSR disables receivers 1 through 8 and enables wired-OR drivers when BSR and DE/R\E\ and CDE1 or CDE2 are high. Channel 9 is placed in a high-impedance state with BSR high.", 3 ~{CRE} (in) "C\R\E\ is the common receiver enable. When high, CRE disables receiver channels 5 to 9.", 4 1A (io) "1A carry data to and from the communication controller.", 5 1DE/~{RE} (in) "1DE/R\E\ is direction controls that transmit data to the bus when it and CDE0 are high. Data is received from the bus when 1DE/R\E\ and CRE and BSR are low and CDE1 and CDE2 are low.", 6 2A (io) "2A carry data to and from the communication controller.", 7 2DE/~{RE} (in) "2DE/R\E\ is direction controls that transmit data to the bus when it and CDE0 are high. Data is received from the bus when 2DE/R\E\ and CRE and BSR are low and CDE1 and CDE2 are low.", 8 3A (io) "3A carry data to and from the communication controller.", 9 3DE/~{RE} (in) "3DE/R\E\ is direction controls that transmit data to the bus when it and CDE0 are high. Data is received from the bus when 3DE/R\E\ and CRE and BSR are low and CDE1 and CDE2 are low.", 10 4A (io) "4A carry data to and from the communication controller.", 11 4DE/~{RE} (in) "4DE/R\E\ is direction controls that transmit data to the bus when it and CDE0 are high. Data is received from the bus when 4DE/R\E\ and CRE and BSR are low and CDE1 and CDE2 are low.", 12 VCC (power) "Supply voltage", 13 GND (power) "GND is the circuit ground. All GND terminals except terminal 1 are physically tied to the die pad for improved thermal conductivity.", 14 GND (power) "GND is the circuit ground. All GND terminals except terminal 1 are physically tied to the die pad for improved thermal conductivity.", 15 GND (power) "GND is the circuit ground. All GND terminals except terminal 1 are physically tied to the die pad for improved thermal conductivity.", 16 GND (power) "GND is the circuit ground. All GND terminals except terminal 1 are physically tied to the die pad for improved thermal conductivity.", 17 GND (power) "GND is the circuit ground. All GND terminals except terminal 1 are physically tied to the die pad for improved thermal conductivity.", 18 VCC (power) "Supply voltage", 19 5A (io) "5A carry data to and from the communication controller.", 20 5DE/~{RE} (in) "5DE/R\E\ is direction controls that transmit data to the bus when it and CDE0 are high. Data is received from the bus when 5DE/R\E\ and CRE and BSR are low and CDE1 and CDE2 are low.", 21 6A (io) "6A carry data to and from the communication controller.", 22 6DE/~{RE} (in) "6DE/R\E\ is direction controls that transmit data to the bus when it and CDE0 are high. Data is received from the bus when 6DE/R\E\ and CRE and BSR are low and CDE1 and CDE2 are low.", 23 7A (io) "7A carry data to and from the communication controller.", 24 7DE/~{RE} (in) "7DE/R\E\ is direction controls that transmit data to the bus when it and CDE0 are high. Data is received from the bus when 7DE/R\E\ and CRE and BSR are low and CDE1 and CDE2 are low.", 25 8A (io) "8A carry data to and from the communication controller.", 26 8DE/~{RE} (in) "8DE/R\E\ is direction controls that transmit data to the bus when it and CDE0 are high. Data is received from the bus when 8DE/R\E\ and CRE and BSR are low and CDE1 and CDE2 are low.", 27 9A (io) "9A carry data to and from the communication controller.", 28 9DE/~{RE} (in) "9DE/R\E\ is direction controls that transmit data to the bus when it and CDE0 are high. Data is received from the bus when 9DE/R\E\ and CRE and BSR are low and CDE1 and CDE2 are low.", 29 1B- (io) "1B- is the inverted data signals of the balanced pair to/from the bus.", 30 1B+ (io) "1B+ is the noninverted data signals of the balanced pair to/from the bus.", 31 2B- (io) "2B- is the inverted data signals of the balanced pair to/from the bus.", 32 2B+ (io) "2B+ is the noninverted data signals of the balanced pair to/from the bus.", 33 3B- (io) "3B- is the inverted data signals of the balanced pair to/from the bus.", 34 3B+ (io) "3B+ is the noninverted data signals of the balanced pair to/from the bus.", 35 4B- (io) "4B- is the inverted data signals of the balanced pair to/from the bus.", 36 4B+ (io) "4B+ is the noninverted data signals of the balanced pair to/from the bus.", 37 5B- (io) "5B- is the inverted data signals of the balanced pair to/from the bus.", 38 5B+ (io) "5B+ is the noninverted data signals of the balanced pair to/from the bus.", 39 VCC (power) "Supply voltage", 40 GND (power) "GND is the circuit ground. All GND terminals except terminal 1 are physically tied to the die pad for improved thermal conductivity.", 41 GND (power) "GND is the circuit ground. All GND terminals except terminal 1 are physically tied to the die pad for improved thermal conductivity.", 42 GND (power) "GND is the circuit ground. All GND terminals except terminal 1 are physically tied to the die pad for improved thermal conductivity.", 43 GND (power) "GND is the circuit ground. All GND terminals except terminal 1 are physically tied to the die pad for improved thermal conductivity.", 44 GND (power) "GND is the circuit ground. All GND terminals except terminal 1 are physically tied to the die pad for improved thermal conductivity.", 45 VCC (power) "Supply voltage", 46 6B- (io) "6B- is the inverted data signals of the balanced pair to/from the bus.", 47 6B+ (io) "6B+ is the noninverted data signals of the balanced pair to/from the bus.", 48 7B- (io) "7B- is the inverted data signals of the balanced pair to/from the bus.", 49 7B+ (io) "7B+ is the noninverted data signals of the balanced pair to/from the bus.", 50 8B- (io) "8B- is the inverted data signals of the balanced pair to/from the bus.", 51 8B+ (io) "8B+ is the noninverted data signals of the balanced pair to/from the bus.", 52 9B- (io) "9B- is the inverted data signals of the balanced pair to/from the bus.", 53 9B+ (io) "9B+ is the noninverted data signals of the balanced pair to/from the bus.", 54 CDE0 (in) "CDE0 is the common driver enable0. Its input signal enables all drivers when CDE0 and 1DE/R\E\-9DE/R\E\ are high.", 55 CDE1 (in) "CDE1 is the common driver enable1. Its input signal enables drivers 1 to 4 when CDE1 is high and BSR is low.", 56 CDE2 (in) "CDE2 is the common driver enable2. when CDE2 is high and BSR is low, drivers 5 to 8 are enabled."

## SN65HVD11SHKJ
designator U?
High Temperature 3.3 V RS-485 Transceiver, 10 Mbps, Half Duplex, -55 to 210 degC, 8-pin CFP (HIKJ); Manufacturer: Texas Instruments; PartNumber: SN65HVD11SHKJ; Eco-Plan: Green (RoHS & no Sb/Br); # of TX/RX: 1 TX / 1 RX; Drivers Per Package: 1; Isolated: No; Number of Nodes: 256; Signaling Rate(Mbps): 10; Common Mode Range: -7 to 12; ESD(kV): 16; Fault Protection(V): -9 to 14; Fail Safe: Open, Short; ICC(Max)(mA): 18; Supply Voltage(s)(V): 3.3; DatasheetVersion: SLLS934D; PackageVersion: revA, Oct-2008; PackageReference: HKJ8; PackageDescription: 8-Lead Ceramic Dual Flatpack, Body 7.3 x 5.9 mm (LxW max), Pitch 1.27 mm; Supplier 1: Digi-Key; Supplier Part Number 1: 296-28287-5-ND; Supplier 2: Newark; Supplier Part Number 2: 09R5436; Supplier 3: Mouser; Supplier Part Number 3: 595-SN65HVD11SHKJ; SubFamily: RS-485; Receivers Per Package: 1; Duplex: Half; Rating: High Temp; Footprint: SN75176; Mounting Technology: Surface Mount; ComponentLink1Description: Datasheet; ComponentLink1URL: http://www.ti.com/general/docs/lit/getliterature.tsp?genericPartNumber=SN65HVD11-HT&fileType=pdf; ComponentLink2Description: Package Specification; ComponentLink2URL: http://www.ti.com/litv/pdf/msoi002j
footprint HKJ8 (DFP, 8 Leads, Body 7x5.6mm, Pitch 1.27mm, Gullwing Leadform)
pins: 1 R (hiz), 2 ~{RE} (in), 3 DE (in), 4 D (in), 5 GND (power), 6 A (io), 7 B (io), 8 VCC (power)

## SN65HVD11SJD
designator U?
High Temperature 3.3 V RS-485 Transceiver, 10 Mbps, Half Duplex, -55 to 210 degC, 8-pin CDIP SB (JDJ); Manufacturer: Texas Instruments; PartNumber: SN65HVD11SJD; Eco-Plan: Green (RoHS & no Sb/Br); # of TX/RX: 1 TX / 1 RX; Drivers Per Package: 1; Isolated: No; Number of Nodes: 256; Signaling Rate(Mbps): 10; Common Mode Range: -7 to 12; ESD(kV): 16; Fault Protection(V): -9 to 14; Fail Safe: Open, Short; ICC(Max)(mA): 18; Supply Voltage(s)(V): 3.3; DatasheetVersion: SLLS934D; PackageVersion: revB, Jul-2010; PackageReference: JDJ8; PackageDescription: 8-Pin, Ceramic Dual In-Line Package, Row Spacing 7.62 mm, Pitch 2.54 mm; Supplier 1: Digi-Key; Supplier Part Number 1: SN65HVD11SJD-ND; Supplier 2: Newark; Supplier Part Number 2: 48T4590; Supplier 3: Mouser; Supplier Part Number 3: 595-SN65HVD11SJD; SubFamily: RS-485; Receivers Per Package: 1; Duplex: Half; Rating: High Temp; Footprint: SN75176; Mounting Technology: Through-hole; ComponentLink1Description: Datasheet; ComponentLink1URL: http://www.ti.com/general/docs/lit/getliterature.tsp?genericPartNumber=SN65HVD11-HT&fileType=pdf; ComponentLink2Description: Package Specification; ComponentLink2URL: http://www.ti.com/litv/pdf/msoi002j
footprint JDJ8 (DIP, 8-Leads, Row Spacing 7.62mm, Pitch 2.54mm, Body 11.8x7.5mm)
pins: 1 R (hiz), 2 ~{RE} (in), 3 DE (in), 4 D (in), 5 GND (power), 6 A (io), 7 B (io), 8 VCC (power)

## SN65HVD20P
designator U?
Extended Common-mode RS-485 Transceiver, 25 Mbps, 5 V, Half Duplex, -40 to 85 degC, 8-pin PDIP (P), Pb-Free (RoHS); Manufacturer: Texas Instruments; PartNumber: SN65HVD20P; Eco-Plan: Green (RoHS & no Sb/Br); # of TX/RX: 1 TX / 1 RX; Drivers Per Package: 1; Isolated: No; Number of Nodes: 64; Signaling Rate(Mbps): 25; Common Mode Range: -20 to 25; ESD(kV): 16; Fault Protection(V): -27 to 27; Fail Safe: Idle, Open, Short; ICC(Max)(mA): 9; Supply Voltage(s)(V): 5; Rating: Catalog; DatasheetVersion: SLLS552E; PackageVersion: revE, Apr-2010; PackageReference: P8; PackageDescription: 8-Pin Plastic Dual-In-Line Package, Row Spacing 7.62 mm, Pitch 2.54 mm; Supplier 1: Digi-Key; Supplier Part Number 1: SN65HVD20P-ND; Supplier 2: Mouser; Supplier Part Number 2: 595-SN65HVD20P; SubFamily: RS-485; Receivers Per Package: 1; Duplex: Half; Footprint: SN75176; Mounting Technology: Through-hole; Code_JEDEC: MS-001-BA; ComponentLink1Description: Datasheet; ComponentLink1URL: http://www.ti.com/general/docs/lit/getliterature.tsp?genericPartNumber=SN65HVD20&fileType=pdf; ComponentLink2Description: Package Specification; ComponentLink2URL: http://www.ti.com/litv/pdf/mpdi001b
footprint P8 (DIP, 8-Leads, Row Spacing 7.62mm, Pitch 2.54mm, Body 9.6x6.4mm)
pins: 1 R (hiz), 2 ~{RE} (in), 3 DE (in), 4 D (in), 5 GND (power), 6 A (io), 7 B (io), 8 VCC (power)

## SN65HVD20PE4
designator U?
Extended Common-mode RS-485 Transceiver, 25 Mbps, 5 V, Half Duplex, -40 to 85 degC, 8-pin PDIP (P), Pb-Free (RoHS); Manufacturer: Texas Instruments; PartNumber: SN65HVD20PE4; Eco-Plan: Green (RoHS & no Sb/Br); # of TX/RX: 1 TX / 1 RX; Drivers Per Package: 1; Isolated: No; Number of Nodes: 64; Signaling Rate(Mbps): 25; Common Mode Range: -20 to 25; ESD(kV): 16; Fault Protection(V): -27 to 27; Fail Safe: Idle, Open, Short; ICC(Max)(mA): 9; Supply Voltage(s)(V): 5; Rating: Catalog; DatasheetVersion: SLLS552E; PackageVersion: revE, Apr-2010; PackageReference: P8; PackageDescription: 8-Pin Plastic Dual-In-Line Package, Row Spacing 7.62 mm, Pitch 2.54 mm; Supplier 1: Digi-Key; Supplier Part Number 1: SN65HVD20PE4-ND; Supplier 2: Mouser; Supplier Part Number 2: 595-SN65HVD20PE4; SubFamily: RS-485; Receivers Per Package: 1; Duplex: Half; Footprint: SN75176; Mounting Technology: Through-hole; Code_JEDEC: MS-001-BA; ComponentLink1Description: Datasheet; ComponentLink1URL: http://www.ti.com/general/docs/lit/getliterature.tsp?genericPartNumber=SN65HVD20&fileType=pdf; ComponentLink2Description: Package Specification; ComponentLink2URL: http://www.ti.com/litv/pdf/mpdi001b
footprint P8 (DIP, 8-Leads, Row Spacing 7.62mm, Pitch 2.54mm, Body 9.6x6.4mm)
pins: 1 R (hiz), 2 ~{RE} (in), 3 DE (in), 4 D (in), 5 GND (power), 6 A (io), 7 B (io), 8 VCC (power)

## SN65HVD21P
designator U?
Extended Common-mode RS-485 Transceiver, 5 Mbps, 5 V, Half Duplex, -40 to 85 degC, 8-pin PDIP (P), Pb-Free (RoHS); Manufacturer: Texas Instruments; PartNumber: SN65HVD21P; Eco-Plan: Green (RoHS & no Sb/Br); # of TX/RX: 1 TX / 1 RX; Drivers Per Package: 1; Isolated: No; Number of Nodes: 256; Signaling Rate(Mbps): 5; Common Mode Range: -20 to 25; ESD(kV): 16; Fault Protection(V): -27 to 27; Fail Safe: Idle, Open, Short; ICC(Max)(mA): 12; Rating: Catalog; DatasheetVersion: SLLS552E; PackageVersion: revE, Apr-2010; PackageReference: P8; PackageDescription: 8-Pin Plastic Dual-In-Line Package, Row Spacing 7.62 mm, Pitch 2.54 mm; Supplier 1: Digi-Key; Supplier Part Number 1: 296-15096-5-ND; Supplier 2: Farnell; Supplier Part Number 2: 2126351; Supplier 3: Farnell; Supplier Part Number 3: 1408706; Supplier 4: Newark; Supplier Part Number 4: 22H0103; Supplier 5: Mouser; Supplier Part Number 5: 595-SN65HVD21P; SubFamily: RS-485; Receivers Per Package: 1; Duplex: Half; Supply Voltage(s)(V): 5; Footprint: SN75176; Mounting Technology: Through-hole; Code_JEDEC: MS-001-BA; ComponentLink1Description: Datasheet; ComponentLink1URL: http://www.ti.com/general/docs/lit/getliterature.tsp?genericPartNumber=SN65HVD21&fileType=pdf; ComponentLink2Description: Package Specification; ComponentLink2URL: http://www.ti.com/litv/pdf/mpdi001b
footprint P8 (DIP, 8-Leads, Row Spacing 7.62mm, Pitch 2.54mm, Body 9.6x6.4mm)
pins: 1 R (hiz), 2 ~{RE} (in), 3 DE (in), 4 D (in), 5 GND (power), 6 A (io), 7 B (io), 8 VCC (power)

## SN65HVD21PE4
designator U?
Extended Common-mode RS-485 Transceiver, 5 Mbps, 5 V, Half Duplex, -40 to 85 degC, 8-pin PDIP (P), Pb-Free (RoHS); Manufacturer: Texas Instruments; PartNumber: SN65HVD21PE4; Eco-Plan: Green (RoHS & no Sb/Br); # of TX/RX: 1 TX / 1 RX; Drivers Per Package: 1; Isolated: No; Number of Nodes: 256; Signaling Rate(Mbps): 5; Common Mode Range: -20 to 25; ESD(kV): 16; Fault Protection(V): -27 to 27; Fail Safe: Idle, Open, Short; ICC(Max)(mA): 12; Rating: Catalog; DatasheetVersion: SLLS552E; PackageVersion: revE, Apr-2010; PackageReference: P8; PackageDescription: 8-Pin Plastic Dual-In-Line Package, Row Spacing 7.62 mm, Pitch 2.54 mm; Supplier 1: Digi-Key; Supplier Part Number 1: SN65HVD21PE4-ND; Supplier 2: Mouser; Supplier Part Number 2: 595-SN65HVD21PE4; SubFamily: RS-485; Receivers Per Package: 1; Duplex: Half; Supply Voltage(s)(V): 5; Footprint: SN75176; Mounting Technology: Through-hole; Code_JEDEC: MS-001-BA; ComponentLink1Description: Datasheet; ComponentLink1URL: http://www.ti.com/general/docs/lit/getliterature.tsp?genericPartNumber=SN65HVD21&fileType=pdf; ComponentLink2Description: Package Specification; ComponentLink2URL: http://www.ti.com/litv/pdf/mpdi001b
footprint P8 (DIP, 8-Leads, Row Spacing 7.62mm, Pitch 2.54mm, Body 9.6x6.4mm)
pins: 1 R (hiz), 2 ~{RE} (in), 3 DE (in), 4 D (in), 5 GND (power), 6 A (io), 7 B (io), 8 VCC (power)

## SN65HVD22P
designator U?
Extended Common-mode RS-485 Transceiver, 0.5 Mbps, 5 V, Half Duplex, -40 to 85 degC, 8-pin PDIP (P), Pb-Free (RoHS); Manufacturer: Texas Instruments; PartNumber: SN65HVD22P; Eco-Plan: Green (RoHS & no Sb/Br); # of TX/RX: 1 TX / 1 RX; Drivers Per Package: 1; Isolated: No; Number of Nodes: 256; Signaling Rate(Mbps): 0.5; Common Mode Range: -20 to 25; ESD(kV): 16; Fault Protection(V): -27 to 27; Fail Safe: Idle, Open, Short; ICC(Max)(mA): 9; Supply Voltage(s)(V): 5; Rating: Catalog; DatasheetVersion: SLLS552E; PackageVersion: revE, Apr-2010; PackageReference: P8; PackageDescription: 8-Pin Plastic Dual-In-Line Package, Row Spacing 7.62 mm, Pitch 2.54 mm; Supplier 1: Digi-Key; Supplier Part Number 1: 296-15097-5-ND; Supplier 2: Mouser; Supplier Part Number 2: 595-SN65HVD22P; SubFamily: RS-485; Receivers Per Package: 1; Duplex: Half; Footprint: SN75176; Mounting Technology: Through-hole; Code_JEDEC: MS-001-BA; ComponentLink1Description: Datasheet; ComponentLink1URL: http://www.ti.com/general/docs/lit/getliterature.tsp?genericPartNumber=SN65HVD22&fileType=pdf; ComponentLink2Description: Package Specification; ComponentLink2URL: http://www.ti.com/litv/pdf/mpdi001b
footprint P8 (DIP, 8-Leads, Row Spacing 7.62mm, Pitch 2.54mm, Body 9.6x6.4mm)
pins: 1 R (hiz), 2 ~{RE} (in), 3 DE (in), 4 D (in), 5 GND (power), 6 A (io), 7 B (io), 8 VCC (power)